# Altium footprint library SMD-4_L3.1-W2.0-P1.3-BR.PcbLib: 1 footprints
Each footprint in its own frame and in the unit in brackets; x right, y up, seen from the top. Pads: shape width x height; smd on the part's side, far side on the other; paste and mask are expansions set on the pad; w line width, h text height; cw(c..) or ccw(c..) is an arc to the next point about the centre after c.
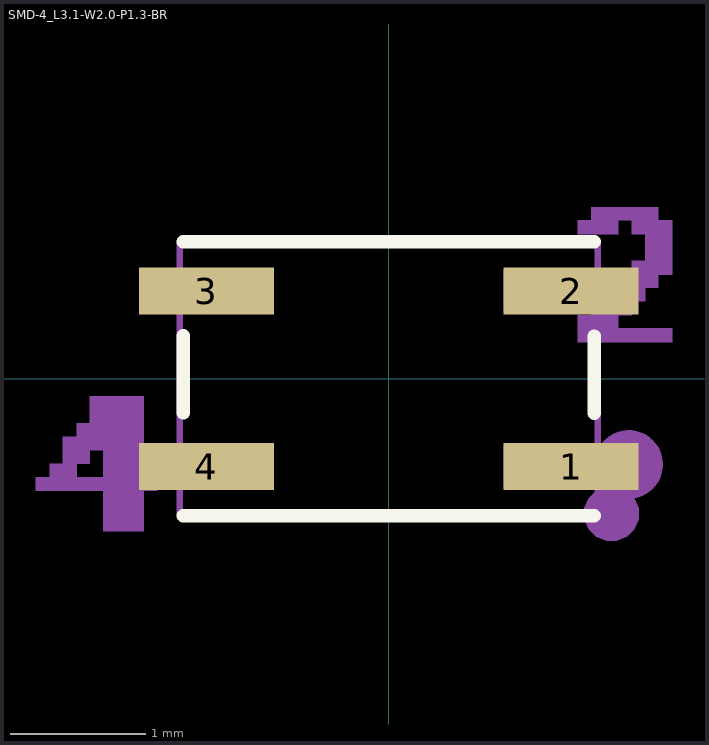
[diagram p0: the footprint, top view; thin cyan lines are the x and y axes]

## SMD-4_L3.1-W2.0-P1.3-BR [mm]
pads (4):
  rect 1.001x0.351 smd mask+0.051: 1(1.351,-0.65) 2(1.351,0.65) 3(-1.351,0.65) 4(-1.351,-0.65)
Top Overlay:
  lines w0.099: -1.524,-1.016 1.524,-1.016 ; -1.524,-0.254 -1.524,0.32 ; -1.524,1.016 1.524,1.016 ; 1.524,-0.257 1.524,0.318
Mechanical 6:
  circle w0.254: c1.778,-0.635 r0.127
  region: 1.501,1.173 1.501,1.273 1.999,1.273 1.999,1.173
  region: 1.4,1.072 1.4,1.173 1.699,1.173 1.699,1.072
  region: 1.801,1.072 1.801,1.173 2.101,1.173 2.101,1.072
  region: 1.9,0.973 1.9,1.072 2.101,1.072 2.101,0.973
  region: 1.9,0.874 1.9,0.973 2.101,0.973 2.101,0.874
  region: 1.801,0.772 1.801,0.874 2.101,0.874 2.101,0.772
  region: 1.699,0.673 1.699,0.772 1.999,0.772 1.999,0.673
  region: 1.6,0.574 1.6,0.673 1.9,0.673 1.9,0.574
  region: 1.501,0.472 1.501,0.574 1.801,0.574 1.801,0.472
  region: 1.4,0.373 1.4,0.472 1.699,0.472 1.699,0.373
  region: 1.4,0.272 1.4,0.373 2.101,0.373 2.101,0.272
  region: -2.215,-0.229 -2.215,-0.13 -1.816,-0.13 -1.816,-0.229
  region: -2.215,-0.33 -2.215,-0.229 -1.816,-0.229 -1.816,-0.33
  region: -2.314,-0.429 -2.314,-0.33 -1.816,-0.33 -1.816,-0.429
  region: -2.416,-0.531 -2.416,-0.429 -1.816,-0.429 -1.816,-0.531
  region: -2.416,-0.63 -2.416,-0.531 -2.215,-0.531 -2.215,-0.63
  region: -2.116,-0.63 -2.116,-0.531 -1.816,-0.531 -1.816,-0.63
  region: -2.515,-0.729 -2.515,-0.63 -2.314,-0.63 -2.314,-0.729
  region: -2.116,-0.729 -2.116,-0.63 -1.816,-0.63 -1.816,-0.729
  region: -2.616,-0.831 -2.616,-0.729 -1.714,-0.729 -1.714,-0.831
  region: -2.116,-0.93 -2.116,-0.831 -1.816,-0.831 -1.816,-0.93
  region: -2.116,-1.029 -2.116,-0.93 -1.816,-0.93 -1.816,-1.029
  region: -2.116,-1.13 -2.116,-1.029 -1.816,-1.029 -1.816,-1.13
Mechanical 15:
  region: -0.851,0.5 -1.651,0.5 -1.651,0.8 -0.851,0.8
  region: -0.851,-0.8 -1.651,-0.8 -1.651,-0.5 -0.851,-0.5
  region: 0.851,-0.5 1.651,-0.5 1.651,-0.8 0.851,-0.8
  region: 0.851,0.8 1.651,0.8 1.651,0.5 0.851,0.5
  region: 1.852,-1.001 1.852,-0.961 1.821,-0.887 1.765,-0.831 1.691,-0.8 1.611,-0.8 1.537,-0.831 1.481,-0.887 1.45,-0.961 1.45,-1.001 1.45,-1.041 1.481,-1.114 1.537,-1.171 1.611,-1.201 1.691,-1.201 1.765,-1.171 1.821,-1.114 1.852,-1.041 1.852,-1.001
  lines w0.051: -1.549,-1.001 -1.549,1.001 1.549,1.001 1.549,-1.001 -1.549,-1.001